# EAGLE library part 3PDT_SMALL (library 00_steve)
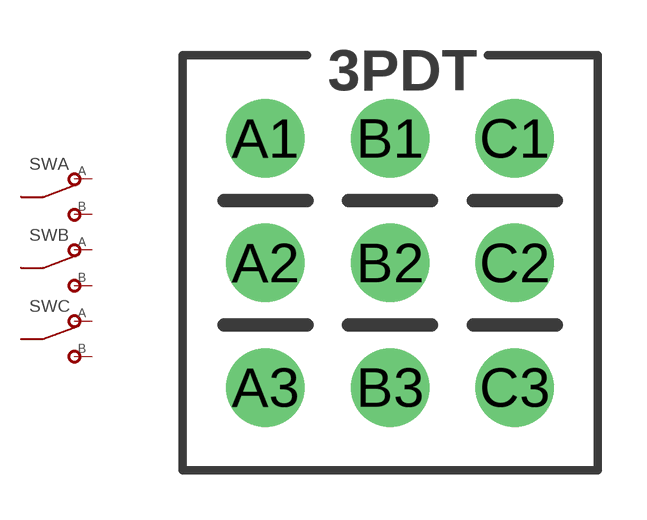
[diagram p3: symbol with the pads of 3PDT_SMALL; footprint 3PDT_SMALL]

Designator prefix SW; gates A=SPDT B=SPDT C=SPDT

## 3PDT_SMALL  [3PDT_SMALL]
A1  A:A  pas
A2  A:COM  pas
A3  A:B  pas
B1  B:A  pas
B2  B:COM  pas
B3  B:B  pas
C1  C:A  pas
C2  C:COM  pas
C3  C:B  pas

## Footprint 3PDT_SMALL (pad centres in mm)
drill 1.6: A1 -3.81,3.81; A2 -3.81,0; A3 -3.81,-3.81; B1 0,3.81; B2 0,0; B3 0,-3.81; C1 3.81,3.81; C2 3.81,0; C3 3.81,-3.81